# Altium footprint library L78L08ABZTR.PcbLib: 1 footprints
Each footprint in its own frame and in the unit in brackets; x right, y up, seen from the top. Pads: shape width x height; smd on the part's side, far side on the other; paste and mask are expansions set on the pad; w line width, h text height; cw(c..) or ccw(c..) is an arc to the next point about the centre after c.
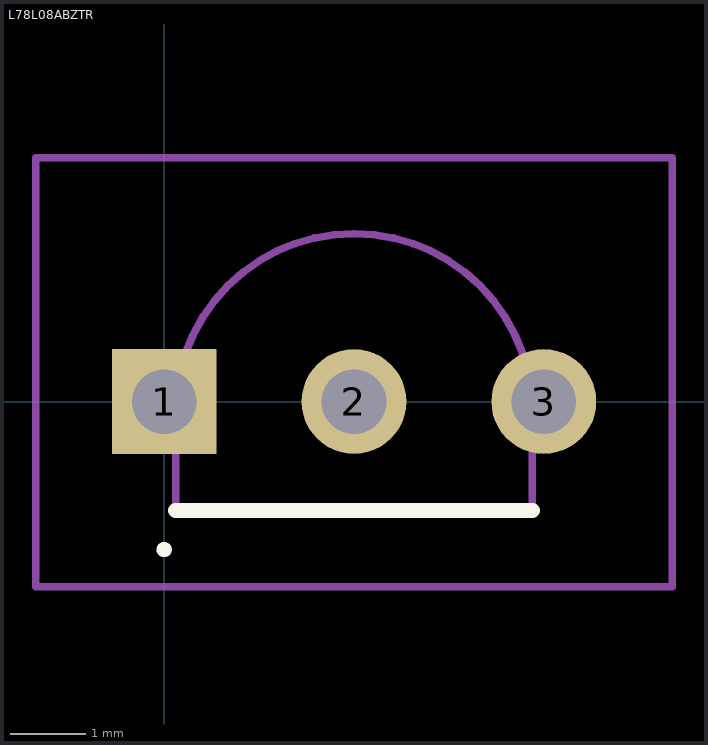
[diagram p0: the footprint, top view; thin cyan lines are the x and y axes]

## L78L08ABZTR [mm]
pads (3):
  rect 1.381x1.381 hole 0.85: 1(0,0)
  round 1.381 hole 0.85: 2(2.5,0) 3(5,0)
Top Overlay:
  lines w0.1: 0,-2 0,-2 ; 0,-2 ccw(c0,-1.95) 0,-1.9 ; 0,-2 cw(c0,-1.95) 0,-1.9 ; 0,-1.9 0,-1.9
  lines w0.2: 0.15,-1.437 4.85,-1.437
Mechanical 15:
  lines w0.1: 0.15,-0.137 0.15,-1.437 2.5,-1.437 4.85,-1.437 4.85,-0.137 ccw(c2.5,-0.137) 0.15,-0.137 ; 0.15,-0.137 0.15,-0.137
Mechanical 20:
  lines w0.1: -1.691,-2.437 6.691,-2.437 6.691,3.213 -1.691,3.213 -1.691,-2.437